# EAGLE library part DS3231 (library maxim_2020)
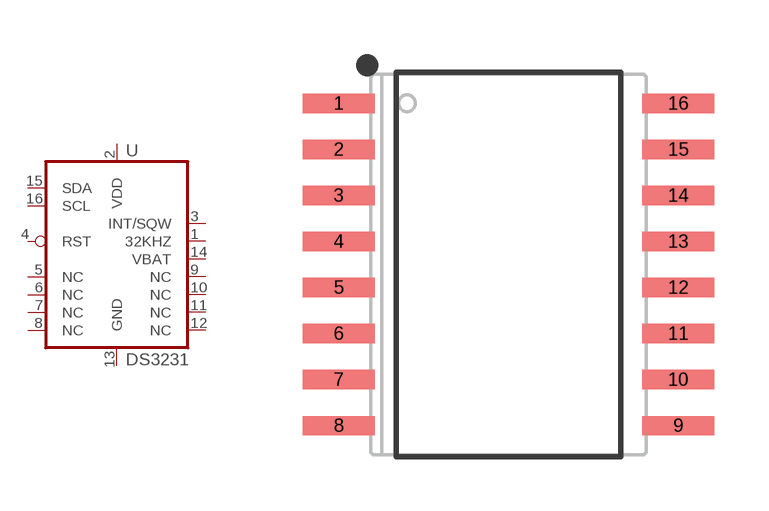
[diagram p0: symbol with the pads of SO16_W16#H2; footprint SO16_W16#H2]

Designator prefix -

## DS3231S  [SO16_W16#H2]
1  32KHZ  out
2  VDD  pwr
3  INT/SQW  out
4  RST  in
5  NC  in
6  NC  in
7  NC  in
8  NC  in
9  NC  in
10  NC  in
11  NC  in
12  NC  in
13  GND  pwr
14  VBAT
15  SDA
16  SCL

## Footprint SO16_W16#H2 (pad centres in mm)
smd 1.98 x 0.53: 1 -4.685,4.445; 2 -4.685,3.175; 3 -4.685,1.905; 4 -4.685,0.635; 5 -4.685,-0.635; 6 -4.685,-1.905; 7 -4.685,-3.175; 8 -4.685,-4.445; 9 4.685,-4.445; 10 4.685,-3.175; 11 4.685,-1.905; 12 4.685,-0.635; 13 4.685,0.635; 14 4.685,1.905; 15 4.685,3.175; 16 4.685,4.445